# Altium schematic symbol library SIPM_GND.SchLib: 1 symbol
Pins are listed as number, name and electrical type; pins without a type are passive.

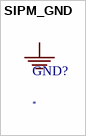
[diagram p0: symbol SIPM_GND]

## SIPM_GND
designator GND?
Ground symbol for SIPM
pins: 19